# Altium footprint library esp.PcbLib: 1 footprints
Each footprint in its own frame and in the unit in brackets; x right, y up, seen from the top. Pads: shape width x height; smd on the part's side, far side on the other; paste and mask are expansions set on the pad; w line width, h text height; cw(c..) or ccw(c..) is an arc to the next point about the centre after c.
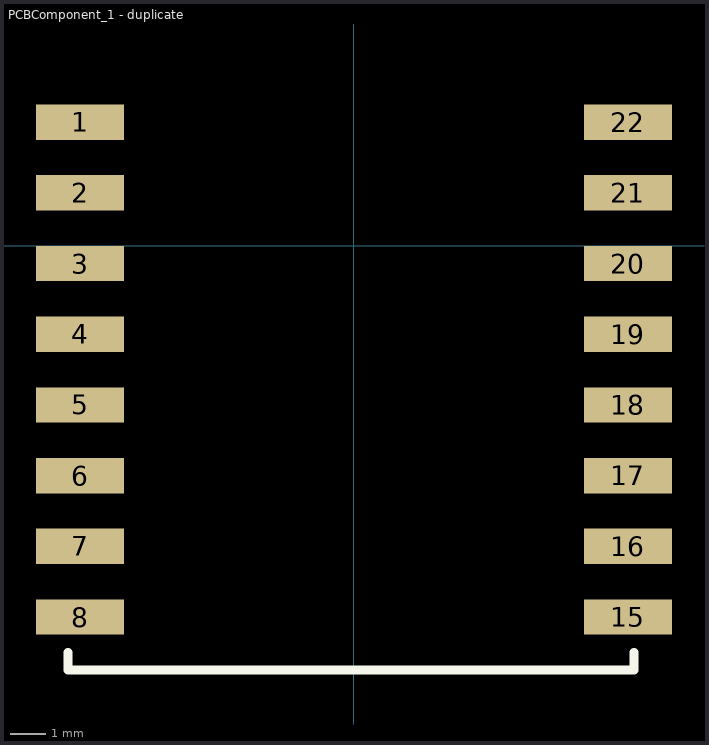
[diagram p0: the footprint, top view; thin cyan lines are the x and y axes]

## PCBComponent_1 - duplicate [mm]
height 1.75
pads (16):
  rect 2.5x1 smd: 1(-7.75,3.493) 2(-7.75,1.493) 3(-7.75,-0.507) 4(-7.75,-2.507) 5(-7.75,-4.507) 6(-7.75,-6.507) 7(-7.75,-8.507) 8(-7.75,-10.507) 15(7.75,-10.507) 16(7.75,-8.507) 17(7.75,-6.507) 18(7.75,-4.507) 19(7.75,-2.507) 20(7.75,-0.507) 21(7.75,1.493) 22(7.75,3.493)
Top Overlay:
  lines w0.254: -8.084,-11.507 -8.084,-12.007 7.916,-12.007 7.916,-11.507
3D body "ESP-12F.step": height 2.9, standoff -0.05, extent -8.042,-12.003 7.958,11.997